# EAGLE library part TPA6120 (library toslink)
HIGH FIDELITY HEADPHONE AMPLIFIER
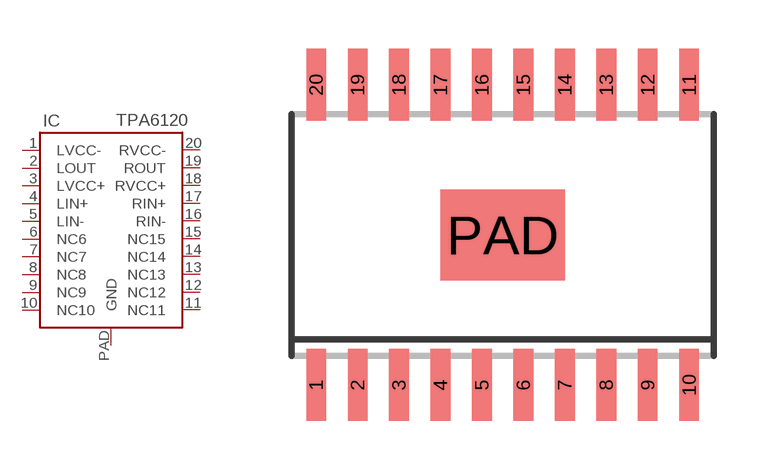
[diagram p13: symbol with the pads of SO20POWERPAD; footprint SO20POWERPAD]

Designator prefix IC

## TPA6120  [SO20POWERPAD]
1  LVCC-  pwr
2  LOUT  out
3  LVCC+  pwr
4  LIN+  in
5  LIN-  in
6  NC6  nc
7  NC7  nc
8  NC8  nc
9  NC9  nc
10  NC10  nc
11  NC11  nc
12  NC12  nc
13  NC13  nc
14  NC14  nc
15  NC15  nc
16  RIN-  in
17  RIN+  in
18  RVCC+  pwr
19  ROUT  out
20  RVCC-  pwr
PAD  GND  pwr

## Footprint SO20POWERPAD (pad centres in mm)
DWP (R-PDSO-G20) PowerPAD PLASTIC SMALL OUTLINE
smd 0.6 x 2.2: 1 -5.715,-4.6; 2 -4.445,-4.6; 3 -3.175,-4.6; 4 -1.905,-4.6; 5 -0.635,-4.6; 6 0.635,-4.6; 7 1.905,-4.6; 8 3.175,-4.6; 9 4.445,-4.6; 10 5.715,-4.6; 11 5.715,4.6; 12 4.445,4.6; 13 3.175,4.6; 14 1.905,4.6; 15 0.635,4.6; 16 -0.635,4.6; 17 -1.905,4.6; 18 -3.175,4.6; 19 -4.445,4.6; 20 -5.715,4.6
smd 3.81 x 2.79: PAD 0,0